# EAGLE library part RJ6_DROIT (library robotter_connector)
ref tyco : 5520258-3
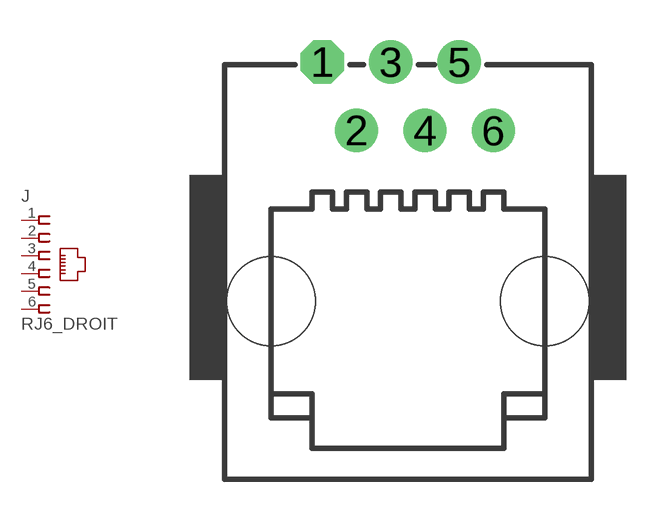
[diagram p0: symbol with the pads of 5520258-3; footprint 5520258-3]

Designator prefix J

## RJ6_DROIT  [5520258-3]
1  1  pas
2  2  pas
3  3  pas
4  4  pas
5  5  pas
6  6  pas

## Footprint 5520258-3 (pad centres in mm)
Modular Jack with Panel Stops
drill 1 pad 1.6 octagon: 1 -3.18,8.89
drill 1 pad 1.6: 2 -1.91,6.35; 3 -0.64,8.89; 4 0.63,6.35; 5 1.9,8.89; 6 3.17,6.35
hole 3.3 at -5.08,0
hole 3.3 at 5.08,0